# Altium footprint library 4.32-CZ-5.08mm插座.PcbLib: 24 footprints (part 1 of 2)
Each footprint in its own frame and in the unit in brackets; x right, y up, seen from the top. Pads: shape width x height; smd on the part's side, far side on the other; paste and mask are expansions set on the pad; w line width, h text height; cw(c..) or ccw(c..) is an arc to the next point about the centre after c.
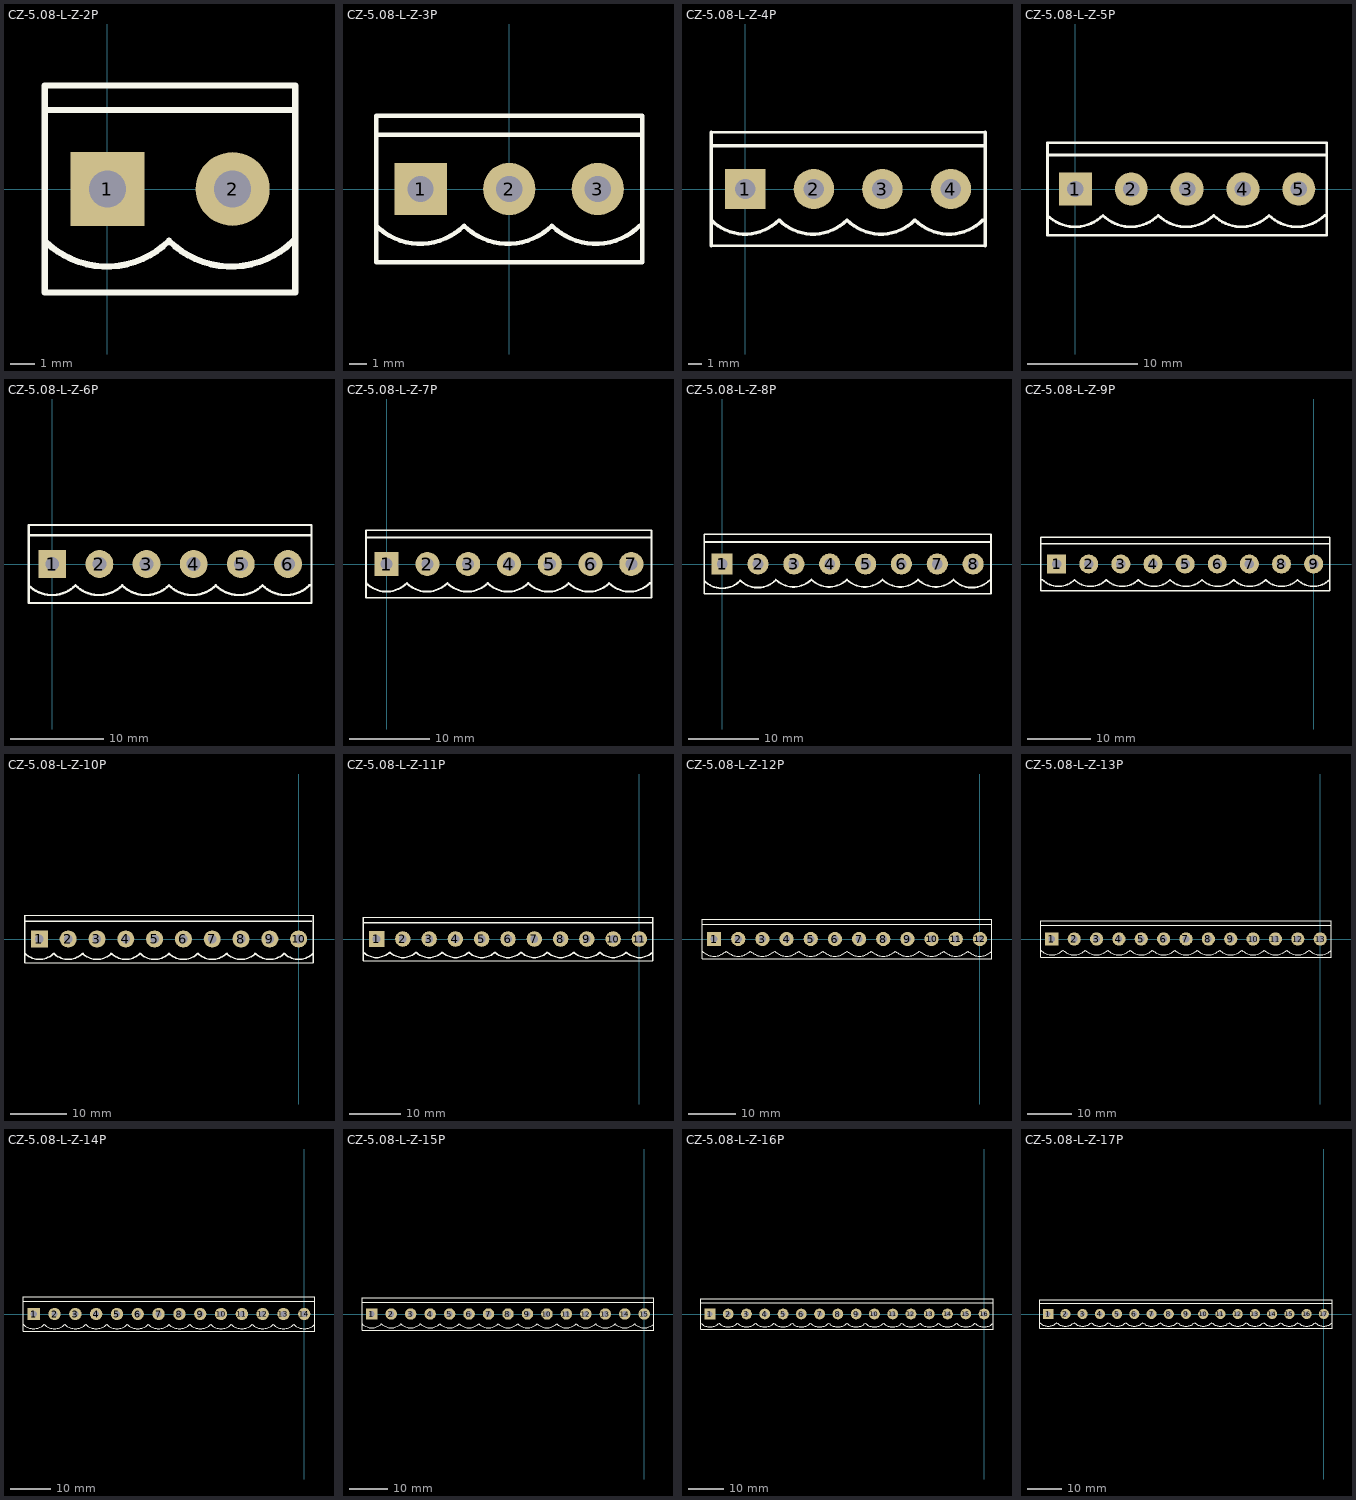
[diagram p0: the footprints below, top view; thin cyan lines are the x and y axes]

## CZ-5.08-L-Z-2P [mm]
pads (2):
  rect 3x3 hole 1.5: 1(0,0)
  round 3 hole 1.5: 2(5.08,0)
Top Overlay:
  lines w0.254: -2.54,-2.1 ccw(c-0.02,0.42) 2.5,-2.1 ccw(c5.02,0.42) 7.54,-2.1 ; -2.54,3.2 7.6,3.2 ; -2.54,-4.2 -2.54,4.2 7.62,4.2 7.62,-4.2 -2.54,-4.2
3D body "5.08立式直插-2P.STEP": height 10.27, standoff -3.93, extent -2.58,-4.25 7.58,4.15

## CZ-5.08-L-Z-3P [mm]
pads (3):
  rect 3x3 hole 1.5: 1(-5.08,0)
  round 3 hole 1.5: 2(0,0) 3(5.08,0)
Top Overlay:
  lines w0.254: -7.63,-4.19 -7.63,4.2 7.62,4.2 7.62,-4.2 -7.62,-4.2 ; -7.63,-2.1 ccw(c-5.11,0.42) -2.59,-2.1 ccw(c-0.07,0.42) 2.45,-2.1 ccw(c4.97,0.42) 7.49,-2.1 ; -7.63,3.1 7.62,3.1
3D body "5.08立式直插-3P.STEP": height 10.27, standoff -3.93, extent -7.62,-4.15 7.62,4.25

## CZ-5.08-L-Z-4P [mm]
pads (4):
  rect 3x3 hole 1.5: 1(0,0)
  round 3 hole 1.5: 2(5.08,0) 3(10.16,0) 4(15.24,0)
Top Overlay:
  lines w0.203: -2.54,-4.2 17.78,-4.2 ; -2.54,4.2 17.78,4.2
  lines w0.254: -2.54,-4.2 -2.54,4.2 ; -2.54,-2.3 ccw(c-0.02,0.22) 2.5,-2.3 ccw(c5.02,0.22) 7.54,-2.3 ccw(c10.06,0.22) 12.58,-2.3 ccw(c15.1,0.22) 17.62,-2.3 17.78,-2.3 ; -2.54,3.2 17.78,3.2 ; 17.78,-4.2 17.78,4.2
3D body "5.08立式直插-4P.STEP": height 3.53, standoff -10.67, extent -2.66,-4.15 17.66,4.25

## CZ-5.08-L-Z-5P [mm] "淘宝ID:黄晶宝石  店铺位置:https://shop463601444.taobao.com"
pads (5):
  rect 3x3 hole 1.5: 1(0,0)
  round 3 hole 1.5: 2(5.08,0) 3(10.16,0) 4(15.24,0) 5(20.32,0)
Top Overlay:
  lines w0.203: -2.54,-4.2 22.86,-4.2 ; -2.54,4.2 22.86,4.2
  lines w0.254: -2.54,-4.2 -2.54,4.2 ; -2.54,-2.4 ccw(c-0.02,0.12) 2.5,-2.4 ccw(c5.02,0.12) 7.54,-2.4 ccw(c10.06,0.12) 12.58,-2.4 ccw(c15.1,0.12) 17.62,-2.4 ccw(c20.14,0.12) 22.66,-2.4 22.8,-2.4 ; -2.54,3.1 22.76,3.1 ; 22.86,-4.2 22.86,4.2
3D body "5.08立式直插-5P.STEP": height 10.27, standoff -3.93, extent -2.45,-4.25 22.95,4.15

## CZ-5.08-L-Z-6P [mm] "淘宝ID:黄晶宝石  店铺位置:https://shop463601444.taobao.com"
pads (6):
  rect 3x3 hole 1.5: 1(0,0)
  round 3 hole 1.5: 2(5.08,0) 3(10.16,0) 4(15.24,0) 5(20.32,0) 6(25.4,0)
Top Overlay:
  lines w0.203: -2.54,-4.2 27.94,-4.2 ; -2.54,4.2 27.94,4.2
  lines w0.254: -2.54,-4.2 -2.54,4.2 ; -2.54,-2.3 ccw(c-0.02,0.22) 2.5,-2.3 ccw(c5.02,0.22) 7.54,-2.3 ccw(c10.06,0.22) 12.58,-2.3 ccw(c15.1,0.22) 17.62,-2.3 ccw(c20.14,0.22) 22.66,-2.3 ccw(c25.18,0.22) 27.7,-2.3 27.94,-2.3 ; -2.54,3.1 27.84,3.1 ; 27.94,-4.2 27.94,4.2
3D body "5.08立式直插-6P.STEP": height 10.27, standoff -3.93, extent -2.49,-4.25 27.99,4.15

## CZ-5.08-L-Z-7P [mm] "淘宝ID:黄晶宝石  店铺位置:https://shop463601444.taobao.com"
pads (7):
  rect 3x3 hole 1.5: 1(0,0)
  round 3 hole 1.5: 2(5.08,0) 3(10.16,0) 4(15.24,0) 5(20.32,0) 6(25.4,0) 7(30.48,0)
Top Overlay:
  lines w0.203: -2.54,-4.2 33.02,-4.2 ; -2.54,4.2 33.02,4.2
  lines w0.254: -2.54,-4.2 -2.54,4.2 ; -2.54,3.3 33.02,3.3 ; -2.52,-2.4 ccw(c0,0.12) 2.52,-2.4 ccw(c5.04,0.12) 7.56,-2.4 ccw(c10.08,0.12) 12.6,-2.4 ccw(c15.12,0.12) 17.64,-2.4 ccw(c20.16,0.12) 22.68,-2.4 ccw(c25.2,0.12) 27.72,-2.4 ccw(c30.24,0.12) 32.76,-2.4 32.98,-2.4 ; 33.02,-4.2 33.02,4.2
3D body "5.08立式直插-7P.STEP": height 10.27, standoff -3.93, extent -2.53,-4.15 33.03,4.25

## CZ-5.08-L-Z-8P [mm] "淘宝ID:黄晶宝石  店铺位置:https://shop463601444.taobao.com"
pads (8):
  rect 3x3 hole 1.5: 1(0,0)
  round 3 hole 1.5: 2(5.08,0) 3(10.16,0) 4(15.24,0) 5(20.32,0) 6(25.4,0) 7(30.48,0) 8(35.56,0)
Top Overlay:
  lines w0.203: -2.54,-4.2 38.1,-4.2 ; -2.54,4.2 38.1,4.2
  lines w0.254: -2.54,-4.2 -2.54,4.2 ; -2.54,3.1 38.1,3.1 ; -2.52,-2.4 ccw(c0,0.12) 2.52,-2.4 ; 2.54,-2.3 ccw(c5.06,0.22) 7.58,-2.3 ; 7.6,-2.2 ccw(c10.12,0.32) 12.64,-2.2 ccw(c15.16,0.32) 17.68,-2.2 ccw(c20.2,0.32) 22.72,-2.2 ccw(c25.24,0.32) 27.76,-2.2 ccw(c30.28,0.32) 32.8,-2.2 ; 32.86,-2.3 ccw(c35.38,0.22) 37.9,-2.3 ; 38.1,-4.2 38.1,4.2
3D body "5.08立式直插-8P.STEP": height 10.27, standoff -3.93, extent -2.57,-4.25 38.07,4.15

## CZ-5.08-L-Z-9P [mm] "淘宝ID:黄晶宝石  店铺位置:https://shop463601444.taobao.com"
pads (9):
  rect 3x3 hole 1.5: 1(-40.64,0)
  round 3 hole 1.5: 2(-35.56,0) 3(-30.48,0) 4(-25.4,0) 5(-20.32,0) 6(-15.24,0) 7(-10.16,0) 8(-5.08,0) 9(0,0)
Top Overlay:
  lines w0.203: -43.18,-4.2 2.54,-4.2 ; -43.18,4.2 2.54,4.2
  lines w0.254: -43.18,-4.2 -43.18,4.2 ; -43.18,3.2 2.54,3.2 ; -43.04,-2.5 -42.86,-2.5 ccw(c-40.34,0.02) -37.82,-2.5 ccw(c-35.3,0.02) -32.78,-2.5 ccw(c-30.26,0.02) -27.74,-2.5 ccw(c-25.22,0.02) -22.7,-2.5 ccw(c-20.18,0.02) -17.66,-2.5 ccw(c-15.14,0.02) -12.62,-2.5 ccw(c-10.1,0.02) -7.58,-2.5 ccw(c-5.06,0.02) -2.54,-2.5 ccw(c-0.02,0.02) 2.5,-2.5 ; 2.54,-4.2 2.54,4.2
3D body "5.08立式直插-9P.STEP": height 3.53, standoff -10.67, extent -43.11,-4.25 2.61,4.15

## CZ-5.08-L-Z-10P [mm] "淘宝ID:黄晶宝石  店铺位置:https://shop463601444.taobao.com"
pads (10):
  rect 3x3 hole 1.5: 1(-45.72,0)
  round 3 hole 1.5: 2(-40.64,0) 3(-35.56,0) 4(-30.48,0) 5(-25.4,0) 6(-20.32,0) 7(-15.24,0) 8(-10.16,0) 9(-5.08,0) 10(0,0)
Top Overlay:
  lines w0.203: -48.26,-4.2 2.54,-4.2 ; -48.26,4.2 2.54,4.2
  lines w0.254: -48.26,-4.2 -48.26,4.2 ; -48.26,-2.54 ccw(c-45.72,0) -43.18,-2.54 ccw(c-40.64,0) -38.1,-2.54 ccw(c-35.56,0) -33.02,-2.54 ccw(c-30.48,0) -27.94,-2.54 ccw(c-25.4,0) -22.86,-2.54 ccw(c-20.32,0) -17.78,-2.54 ccw(c-15.24,0) -12.7,-2.54 ccw(c-10.16,0) -7.62,-2.54 ccw(c-5.08,0) -2.54,-2.54 ccw(c0,0) 2.54,-2.54 ; -48.26,3.1 2.34,3.1 ; 2.54,-4.2 2.54,4.2
3D body "5.08立式直插-10.STEP": height 3.53, standoff -10.67, extent -48.35,-4.15 2.45,4.25

## CZ-5.08-L-Z-11P [mm] "淘宝ID:黄晶宝石   店铺网址:https://shop463601444.taobao.com"
pads (11):
  rect 3x3 hole 1.5: 1(-50.8,0)
  round 3 hole 1.5: 2(-45.72,0) 3(-40.64,0) 4(-35.56,0) 5(-30.48,0) 6(-25.4,0) 7(-20.32,0) 8(-15.24,0) 9(-10.16,0) 10(-5.08,0) 11(0,0)
Top Overlay:
  lines w0.203: -53.34,-4.2 2.54,-4.2 ; -53.34,4.2 2.54,4.2
  lines w0.254: -53.34,-4.2 -53.34,4.2 ; -53.34,-2.54 ccw(c-50.8,0) -48.26,-2.54 ccw(c-45.72,0) -43.18,-2.54 ccw(c-40.64,0) -38.1,-2.54 ccw(c-35.56,0) -33.02,-2.54 ccw(c-30.48,0) -27.94,-2.54 ccw(c-25.4,0) -22.86,-2.54 ccw(c-20.32,0) -17.78,-2.54 ccw(c-15.24,0) -12.7,-2.54 ccw(c-10.16,0) -7.62,-2.54 ccw(c-5.08,0) -2.54,-2.54 ccw(c0,0) 2.54,-2.54 ; -53.34,3.1 2.54,3.1 ; 2.54,-4.2 2.54,4.2
3D body "5.08立式直插-11P.STEP": height 3.53, standoff -10.67, extent -53.44,-4.25 2.44,4.15

## CZ-5.08-L-Z-12P [mm] "淘宝ID:黄晶宝石   店铺网址:https://shop463601444.taobao.com"
pads (12):
  rect 3x3 hole 1.5: 1(-55.88,0)
  round 3 hole 1.5: 2(-50.8,0) 3(-45.72,0) 4(-40.64,0) 5(-35.56,0) 6(-30.48,0) 7(-25.4,0) 8(-20.32,0) 9(-15.24,0) 10(-10.16,0) 11(-5.08,0) 12(0,0)
Top Overlay:
  lines w0.203: -58.42,-4.2 2.54,-4.2 ; -58.42,4.2 2.54,4.2
  lines w0.254: -58.42,-4.2 -58.42,4.2 ; -58.42,-2.54 ccw(c-55.88,0) -53.34,-2.54 ccw(c-50.8,0) -48.26,-2.54 ccw(c-45.72,0) -43.18,-2.54 ccw(c-40.64,0) -38.1,-2.54 ccw(c-35.56,0) -33.02,-2.54 ccw(c-30.48,0) -27.94,-2.54 ccw(c-25.4,0) -22.86,-2.54 ccw(c-20.32,0) -17.78,-2.54 ccw(c-15.24,0) -12.7,-2.54 ccw(c-10.16,0) -7.62,-2.54 ccw(c-5.08,0) -2.54,-2.54 ccw(c0,0) 2.54,-2.54 ; -58.42,3.1 2.54,3.1 ; 2.54,-4.2 2.54,4.2
3D body "5.08立式直插-12P.STEP": height 3.53, standoff -10.67, extent -58.48,-4.25 2.48,4.15

## CZ-5.08-L-Z-13P [mm] "淘宝ID:黄晶宝石   店铺网址:https://shop463601444.taobao.com"
pads (13):
  rect 3x3 hole 1.5: 1(-60.96,0)
  round 3 hole 1.5: 2(-55.88,0) 3(-50.8,0) 4(-45.72,0) 5(-40.64,0) 6(-35.56,0) 7(-30.48,0) 8(-25.4,0) 9(-20.32,0) 10(-15.24,0) 11(-10.16,0) 12(-5.08,0) 13(0,0)
Top Overlay:
  lines w0.203: -63.5,-4.2 2.54,-4.2 ; -63.5,4.2 2.54,4.2
  lines w0.254: -63.5,-4.2 -63.5,4.2 ; -63.5,-2.54 ccw(c-60.96,0) -58.42,-2.54 ccw(c-55.88,0) -53.34,-2.54 ccw(c-50.8,0) -48.26,-2.54 ccw(c-45.72,0) -43.18,-2.54 ccw(c-40.64,0) -38.1,-2.54 ccw(c-35.56,0) -33.02,-2.54 ccw(c-30.48,0) -27.94,-2.54 ccw(c-25.4,0) -22.86,-2.54 ccw(c-20.32,0) -17.78,-2.54 ccw(c-15.24,0) -12.7,-2.54 ccw(c-10.16,0) -7.62,-2.54 ccw(c-5.08,0) -2.54,-2.54 ccw(c0,0) 2.54,-2.54 ; -63.5,3.1 2.54,3.1 ; 2.54,-4.2 2.54,4.2
3D body "5.08立式直插-13P.STEP": height 10.27, standoff -3.93, extent -63.5,-4.21 2.54,4.19

## CZ-5.08-L-Z-14P [mm] "淘宝ID:黄晶宝石   店铺网址:https://shop463601444.taobao.com"
pads (14):
  rect 3x3 hole 1.5: 1(-66.04,0)
  round 3 hole 1.5: 2(-60.96,0) 3(-55.88,0) 4(-50.8,0) 5(-45.72,0) 6(-40.64,0) 7(-35.56,0) 8(-30.48,0) 9(-25.4,0) 10(-20.32,0) 11(-15.24,0) 12(-10.16,0) 13(-5.08,0) 14(0,0)
Top Overlay:
  lines w0.203: -68.58,-4.2 2.54,-4.2 ; -68.58,4.2 2.54,4.2
  lines w0.254: -68.58,-4.2 -68.58,4.2 ; -68.58,-2.54 ccw(c-66.04,0) -63.5,-2.54 ccw(c-60.96,0) -58.42,-2.54 ccw(c-55.88,0) -53.34,-2.54 ccw(c-50.8,0) -48.26,-2.54 ccw(c-45.72,0) -43.18,-2.54 ccw(c-40.64,0) -38.1,-2.54 ccw(c-35.56,0) -33.02,-2.54 ccw(c-30.48,0) -27.94,-2.54 ccw(c-25.4,0) -22.86,-2.54 ccw(c-20.32,0) -17.78,-2.54 ccw(c-15.24,0) -12.7,-2.54 ccw(c-10.16,0) -7.62,-2.54 ccw(c-5.08,0) -2.54,-2.54 ccw(c0,0) 2.54,-2.54 ; -68.58,3.1 2.54,3.1 ; 2.54,-4.2 2.54,4.2
3D body "5.08立式直插-14P.STEP": height 10.27, standoff -3.93, extent -68.5,-4.2 2.62,4.2

## CZ-5.08-L-Z-15P [mm] "淘宝ID:黄晶宝石   店铺网址:https://shop463601444.taobao.com"
pads (15):
  rect 3x3 hole 1.5: 1(-71.12,0)
  round 3 hole 1.5: 2(-66.04,0) 3(-60.96,0) 4(-55.88,0) 5(-50.8,0) 6(-45.72,0) 7(-40.64,0) 8(-35.56,0) 9(-30.48,0) 10(-25.4,0) 11(-20.32,0) 12(-15.24,0) 13(-10.16,0) 14(-5.08,0) 15(0,0)
Top Overlay:
  lines w0.203: -73.66,-4.2 2.54,-4.2 ; -73.66,4.2 2.54,4.2
  lines w0.254: -73.66,-4.2 -73.66,4.2 ; -73.66,-2.54 ccw(c-71.12,0) -68.58,-2.54 ccw(c-66.04,0) -63.5,-2.54 ccw(c-60.96,0) -58.42,-2.54 ccw(c-55.88,0) -53.34,-2.54 ccw(c-50.8,0) -48.26,-2.54 ccw(c-45.72,0) -43.18,-2.54 ccw(c-40.64,0) -38.1,-2.54 ccw(c-35.56,0) -33.02,-2.54 ccw(c-30.48,0) -27.94,-2.54 ccw(c-25.4,0) -22.86,-2.54 ccw(c-20.32,0) -17.78,-2.54 ccw(c-15.24,0) -12.7,-2.54 ccw(c-10.16,0) -7.62,-2.54 ccw(c-5.08,0) -2.54,-2.54 ccw(c0,0) 2.54,-2.54 ; -73.66,3.1 2.54,3.1 ; 2.54,-4.2 2.54,4.2
3D body "5.08立式直插-15P.STEP": height 10.27, standoff -3.93, extent -73.75,-4.21 2.45,4.19

## CZ-5.08-L-Z-16P [mm] "淘宝ID:黄晶宝石   店铺网址:https://shop463601444.taobao.com"
pads (16):
  rect 3x3 hole 1.5: 1(-76.2,0)
  round 3 hole 1.5: 2(-71.12,0) 3(-66.04,0) 4(-60.96,0) 5(-55.88,0) 6(-50.8,0) 7(-45.72,0) 8(-40.64,0) 9(-35.56,0) 10(-30.48,0) 11(-25.4,0) 12(-20.32,0) 13(-15.24,0) 14(-10.16,0) 15(-5.08,0) 16(0,0)
Top Overlay:
  lines w0.203: -78.74,-4.2 2.54,-4.2 ; -78.74,4.2 2.54,4.2
  lines w0.254: -78.74,-4.2 -78.74,4.2 ; -78.74,-2.54 ccw(c-76.2,0) -73.66,-2.54 ccw(c-71.12,0) -68.58,-2.54 ccw(c-66.04,0) -63.5,-2.54 ccw(c-60.96,0) -58.42,-2.54 ccw(c-55.88,0) -53.34,-2.54 ccw(c-50.8,0) -48.26,-2.54 ccw(c-45.72,0) -43.18,-2.54 ccw(c-40.64,0) -38.1,-2.54 ccw(c-35.56,0) -33.02,-2.54 ccw(c-30.48,0) -27.94,-2.54 ccw(c-25.4,0) -22.86,-2.54 ccw(c-20.32,0) -17.78,-2.54 ccw(c-15.24,0) -12.7,-2.54 ccw(c-10.16,0) -7.62,-2.54 ccw(c-5.08,0) -2.54,-2.54 ccw(c0,0) 2.54,-2.54 ; -78.74,3.1 2.54,3.1 ; 2.54,-4.2 2.54,4.2
3D body "5.08立式直插-16P.STEP": height 3.53, standoff -10.67, extent -78.64,-4.25 2.64,4.15

## CZ-5.08-L-Z-17P [mm] "淘宝ID:黄晶宝石   店铺网址:https://shop463601444.taobao.com"
pads (17):
  rect 3x3 hole 1.5: 1(-81.28,0)
  round 3 hole 1.5: 2(-76.2,0) 3(-71.12,0) 4(-66.04,0) 5(-60.96,0) 6(-55.88,0) 7(-50.8,0) 8(-45.72,0) 9(-40.64,0) 10(-35.56,0) 11(-30.48,0) 12(-25.4,0) 13(-20.32,0) 14(-15.24,0) 15(-10.16,0) 16(-5.08,0) 17(0,0)
Top Overlay:
  lines w0.203: -83.82,-4.2 2.54,-4.2 ; -83.82,4.2 2.54,4.2
  lines w0.254: -83.82,-4.2 -83.82,4.2 ; -83.82,-2.54 ccw(c-81.28,0) -78.74,-2.54 ccw(c-76.2,0) -73.66,-2.54 ccw(c-71.12,0) -68.58,-2.54 ccw(c-66.04,0) -63.5,-2.54 ccw(c-60.96,0) -58.42,-2.54 ccw(c-55.88,0) -53.34,-2.54 ccw(c-50.8,0) -48.26,-2.54 ccw(c-45.72,0) -43.18,-2.54 ccw(c-40.64,0) -38.1,-2.54 ccw(c-35.56,0) -33.02,-2.54 ccw(c-30.48,0) -27.94,-2.54 ccw(c-25.4,0) -22.86,-2.54 ccw(c-20.32,0) -17.78,-2.54 ccw(c-15.24,0) -12.7,-2.54 ccw(c-10.16,0) -7.62,-2.54 ccw(c-5.08,0) -2.54,-2.54 ccw(c0,0) 2.54,-2.54 ; -83.82,3.1 2.454,3.1 ; 2.54,-4.2 2.54,4.2
3D body "5.08立式直插-17P.STEP": height 3.53, standoff -10.67, extent -83.93,-4.15 2.43,4.25